# EAGLE library part TC962-DIP8 (library Neel)
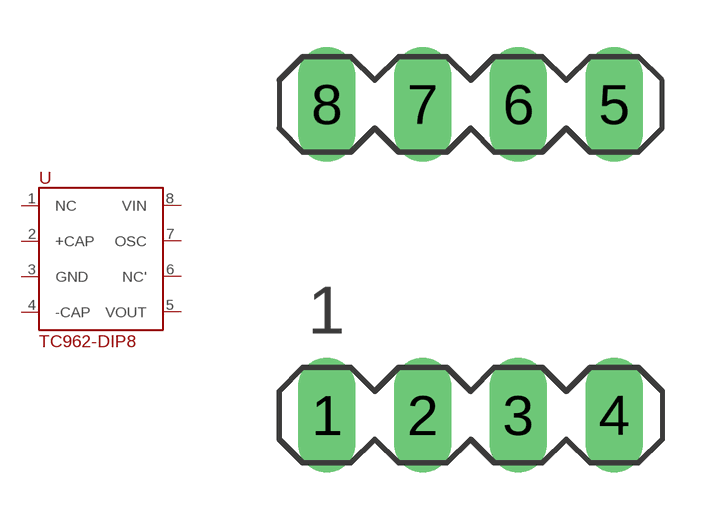
[diagram p63: symbol with the pads of DIP-8; footprint DIP-8]

Designator prefix -

## TC962-DIP8  [DIP-8]
1  NC
2  +CAP
3  GND
4  -CAP
5  VOUT
6  NC'
7  OSC
8  VIN

## Footprint DIP-8 (pad centres in mm)
drill 1.016 long: 1 -3.81,-3.81; 2 -1.27,-3.81; 3 1.27,-3.81; 4 3.81,-3.81; 5 3.81,4.445; 6 1.27,4.445; 7 -1.27,4.445; 8 -3.81,4.445